# Altium footprint library final.PcbLib: 69 footprints (part 1 of 5)
Each footprint in its own frame and in the unit in brackets; x right, y up, seen from the top. Pads: shape width x height; smd on the part's side, far side on the other; paste and mask are expansions set on the pad; w line width, h text height; cw(c..) or ccw(c..) is an arc to the next point about the centre after c.
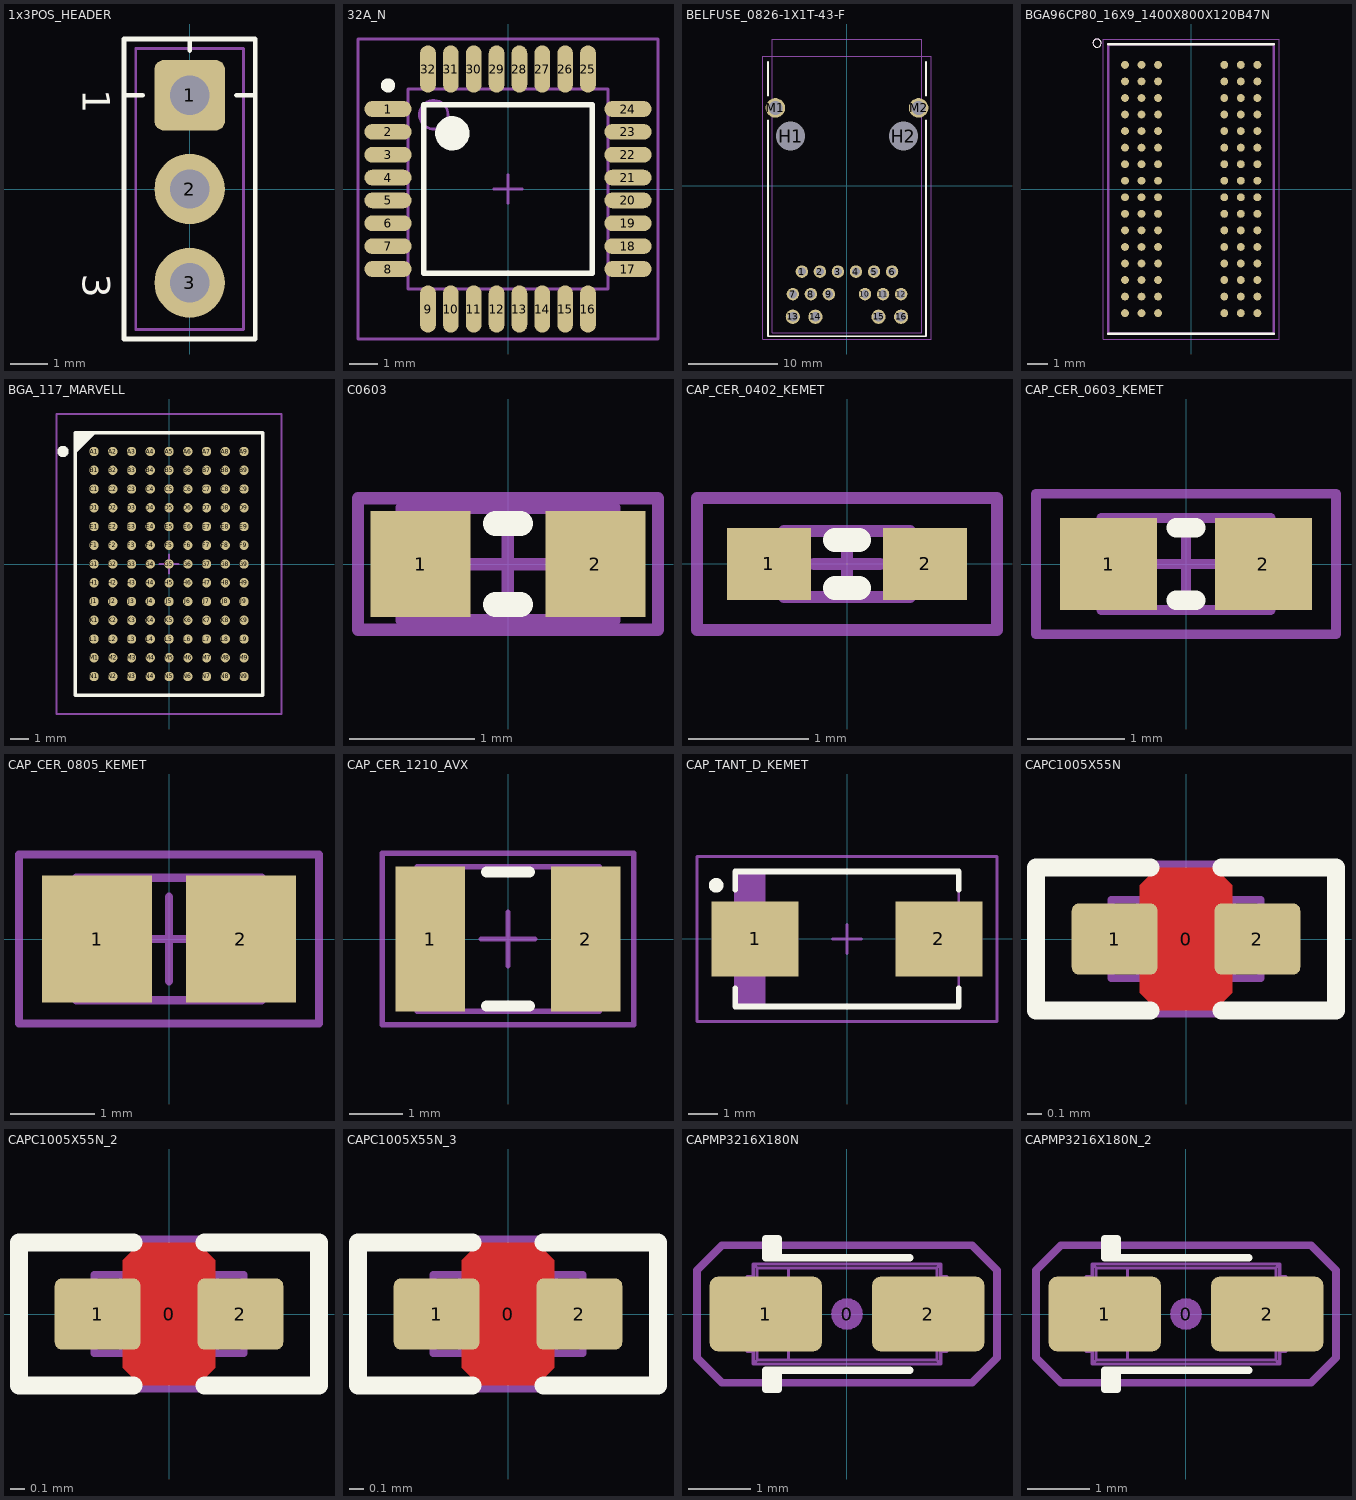
[diagram p0: the footprints below, top view; thin cyan lines are the x and y axes]

## 1x3POS_HEADER [mil] "Connector Header, Single-row 3-position, 0.100\" pitch"
height 235
pads (3):
  rrect25% 75x75 hole 42 mask+1.97: 1(0,100)
  round 75 hole 42 mask+1.97: 2(0,0) 3(0,-100)
Top Overlay:
  lines w5: -70,100 -50,100 ; 0,147.64 0,160 ; 50,100 70,100 ; -70,-160 -70,160 70,160 70,-160 -70,-160
  text "3" at -114.17,-90.55 h29.53
  text "1" at -114.17,106.3 h29.53
Mechanical 13:
  lines w3: -57.47,-150 -57.47,150 57.49,150 57.49,-150 -57.47,-150
3D body: height 335.04, standoff -144.88, extent -57.48,-150 57.48,150

## 32A_N [mm] "Thin QFP, 32-Leads, Body 7x7mm, Pitch 0.8mm, IPC Medium Density"
height 1.2
pads (32):
  oval 1.65x0.55 smd mask+0.05: 1(-4.2,2.8) 2(-4.2,2) 3(-4.2,1.2) 4(-4.2,0.4) 5(-4.2,-0.4) 6(-4.2,-1.2) 7(-4.2,-2) 8(-4.2,-2.8) 17(4.2,-2.8) 18(4.2,-2) 19(4.2,-1.2) 20(4.2,-0.4) 21(4.2,0.4) 22(4.2,1.2) 23(4.2,2) 24(4.2,2.8)
  oval 0.55x1.65 smd mask+0.05: 9(-2.8,-4.2) 10(-2,-4.2) 11(-1.2,-4.2) 12(-0.4,-4.2) 13(0.4,-4.2) 14(1.2,-4.2) 15(2,-4.2) 16(2.8,-4.2) 25(2.8,4.2) 26(2,4.2) 27(1.2,4.2) 28(0.4,4.2) 29(-0.4,4.2) 30(-1.2,4.2) 31(-2,4.2) 32(-2.8,4.2)
Top Overlay:
  circle w0.25: c-4.2,3.625 r0.125
  circle w0.6: c-1.95,1.95 r0.3
  lines w0.2: -2.95,-2.95 -2.95,2.95 2.95,2.95 2.95,-2.95 -2.95,-2.95
Mechanical 14:
  circle w0.1: c-2.6,2.6 r0.5
  lines w0.1: -3.5,-3.5 -3.5,3.5 3.5,3.5 3.5,-3.5 -3.5,-3.5
Mechanical 15:
  lines w0.1: -0.5,0 0.5,0 ; 0,-0.5 0,0.5 ; -5.25,-5.25 -5.25,5.25 5.25,5.25 5.25,-5.25 -5.25,-5.25
3D body: height 1.2, standoff 0, extent -3.5,-3.5 3.5,3.5

## BELFUSE_0826-1X1T-43-F [mm]
pads (20):
  round 1.4 hole 0.914: 1(-5.08,-9.66) 2(-3.05,-9.66) 3(-1.02,-9.66) 4(1.01,-9.66) 5(3.04,-9.66) 6(5.07,-9.66) 7(-6.095,-12.2) 8(-4.065,-12.2) 9(-2.035,-12.2) 10(2.025,-12.2) 11(4.055,-12.2) 12(6.085,-12.2)
  round 1.6 hole 1.118: 13(-6.095,-14.74) 14(-3.555,-14.74) 15(3.545,-14.74) 16(6.085,-14.74)
  round 3.15 hole 3.251 unplated paste+0 mask+0.15: H1(-6.35,5.58) H2(6.35,5.58)
  round 2.2 hole 1.575: M1(-8.065,8.76) M2(8.065,8.76)
Top Overlay:
  lines w0.2: -8.9,7.36 -8.9,-16.94 8.9,-16.94 8.9,7.36 ; -8.9,10.16 -8.9,13.96 ; 8.9,10.16 8.9,13.96
Mechanical 13:
  lines w0.1: -8.4,-16.51 8.4,-16.51 8.4,16.51 -8.4,16.51 -8.4,-16.51
Mechanical 15:
  lines w0.1: -9.5,-17.24 9.5,-17.24 9.5,14.56 -9.5,14.56 -9.5,-17.24
3D body: height 14.5, standoff -3.68, extent -9.308,-16.5 9.271,16.52

## BGA96CP80_16X9_1400X800X120B47N [mm]
pads (96):
  round 0.38 smd: A1(-3.2,6) A2(-2.4,6) A3(-1.6,6) A7(1.6,6) A8(2.4,6) A9(3.2,6) B1(-3.2,5.2) B2(-2.4,5.2) B3(-1.6,5.2) B7(1.6,5.2) B8(2.4,5.2) B9(3.2,5.2) C1(-3.2,4.4) C2(-2.4,4.4) C3(-1.6,4.4) C7(1.6,4.4) C8(2.4,4.4) C9(3.2,4.4) D1(-3.2,3.6) D2(-2.4,3.6) D3(-1.6,3.6) D7(1.6,3.6) D8(2.4,3.6) D9(3.2,3.6) E1(-3.2,2.8) E2(-2.4,2.8) E3(-1.6,2.8) E7(1.6,2.8) E8(2.4,2.8) E9(3.2,2.8) F1(-3.2,2) F2(-2.4,2) F3(-1.6,2) F7(1.6,2) F8(2.4,2) F9(3.2,2) G1(-3.2,1.2) G2(-2.4,1.2) G3(-1.6,1.2) G7(1.6,1.2) G8(2.4,1.2) G9(3.2,1.2) H1(-3.2,0.4) H2(-2.4,0.4) H3(-1.6,0.4) H7(1.6,0.4) H8(2.4,0.4) H9(3.2,0.4) J1(-3.2,-0.4) J2(-2.4,-0.4) J3(-1.6,-0.4) J7(1.6,-0.4) J8(2.4,-0.4) J9(3.2,-0.4) K1(-3.2,-1.2) K2(-2.4,-1.2) K3(-1.6,-1.2) K7(1.6,-1.2) K8(2.4,-1.2) K9(3.2,-1.2) L1(-3.2,-2) L2(-2.4,-2) L3(-1.6,-2) L7(1.6,-2) L8(2.4,-2) L9(3.2,-2) M1(-3.2,-2.8) M2(-2.4,-2.8) M3(-1.6,-2.8) M7(1.6,-2.8) M8(2.4,-2.8) M9(3.2,-2.8) N1(-3.2,-3.6) N2(-2.4,-3.6) N3(-1.6,-3.6) N7(1.6,-3.6) N8(2.4,-3.6) N9(3.2,-3.6) P1(-3.2,-4.4) P2(-2.4,-4.4) P3(-1.6,-4.4) P7(1.6,-4.4) P8(2.4,-4.4) P9(3.2,-4.4) R1(-3.2,-5.2) R2(-2.4,-5.2) R3(-1.6,-5.2) R7(1.6,-5.2) R8(2.4,-5.2) R9(3.2,-5.2) T1(-3.2,-6) T2(-2.4,-6) T3(-1.6,-6) T7(1.6,-6) T8(2.4,-6) T9(3.2,-6)
Top Overlay:
  circle w0: c-4.55,7.05 r0.2
  lines w0.127: -4,-7 4,-7 ; -4,7 4,7
Mechanical 4:
  circle w0: c-4.55,7.05 r0.2
  circle w0: c-4.55,7.05 r0.2
  lines w0.127: -4,-7 -4,7 ; -4,-7 4,-7 ; -4,-7 -4,7 ; -4,-7 4,-7 ; -4,7 4,7 ; -4,7 4,7 ; 4,-7 4,7 ; 4,-7 4,7
Mechanical 16:
  lines w0.05: -4.25,-7.25 -4.25,7.25 4.25,7.25 4.25,-7.25 -4.25,-7.25

## BGA_117_MARVELL [mm]
height 1.54
pads (117):
  round 0.5 smd: A1(-4,6) A2(-3,6) A3(-2,6) A4(-1,6) A5(0,6) A6(1,6) A7(2,6) A8(3,6) A9(4,6) B1(-4,5) B2(-3,5) B3(-2,5) B4(-1,5) B5(0,5) B6(1,5) B7(2,5) B8(3,5) B9(4,5) C1(-4,4) C2(-3,4) C3(-2,4) C4(-1,4) C5(0,4) C6(1,4) C7(2,4) C8(3,4) C9(4,4) D1(-4,3) D2(-3,3) D3(-2,3) D4(-1,3) D5(0,3) D6(1,3) D7(2,3) D8(3,3) D9(4,3) E1(-4,2) E2(-3,2) E3(-2,2) E4(-1,2) E5(0,2) E6(1,2) E7(2,2) E8(3,2) E9(4,2) F1(-4,1) F2(-3,1) F3(-2,1) F4(-1,1) F5(0,1) F6(1,1) F7(2,1) F8(3,1) F9(4,1) G1(-4,0) G2(-3,0) G3(-2,0) G4(-1,0) G5(0,0) G6(1,0) G7(2,0) G8(3,0) G9(4,0) H1(-4,-1) H2(-3,-1) H3(-2,-1) H4(-1,-1) H5(0,-1) H6(1,-1) H7(2,-1) H8(3,-1) H9(4,-1) J1(-4,-2) J2(-3,-2) J3(-2,-2) J4(-1,-2) J5(0,-2) J6(1,-2) J7(2,-2) J8(3,-2) J9(4,-2) K1(-4,-3) K2(-3,-3) K3(-2,-3) K4(-1,-3) K5(0,-3) K6(1,-3) K7(2,-3) K8(3,-3) K9(4,-3) L1(-4,-4) L2(-3,-4) L3(-2,-4) L4(-1,-4) L5(0,-4) L6(1,-4) L7(2,-4) L8(3,-4) L9(4,-4) M1(-4,-5) M2(-3,-5) M3(-2,-5) M4(-1,-5) M5(0,-5) M6(1,-5) M7(2,-5) M8(3,-5) M9(4,-5) N1(-4,-6) N2(-3,-6) N3(-2,-6) N4(-1,-6) N5(0,-6) N6(1,-6) N7(2,-6) N8(3,-6) N9(4,-6)
Top Overlay:
  circle w0.3: c-5.65,6 r0.15
  region: -4,7 -5,6 -5,7
  lines w0.2: -5,6 -4,7 ; -5,-7 -5,7 5,7 5,-7 -5,-7
Mechanical 13:
  lines w0.1: -5,-7 -5,7 5,7 5,-7 -5,-7
Mechanical 15:
  lines w0.1: -0.5,0 0.5,0 ; 0,-0.5 0,0.5 ; -6,-8 -6,8 6,8 6,-8 -6,-8
3D body: height 1.34, standoff -0.05, extent -5,-7 5,7

## C0603 [mm] "0603 Generic"
height 0.45
pads (2):
  rect 0.8x0.85 smd mask+0.05: 1(-0.7,0) 2(0.7,0)
Top Overlay:
  lines w0.2: -0.1,-0.325 0.1,-0.325 ; -0.1,0.325 0.1,0.325
Mechanical 13:
  lines w0.1: -0.85,-0.45 -0.85,0.45 0.85,0.45 0.85,-0.45 -0.85,-0.45
Mechanical 15:
  lines w0.1: -0.45,0 0.45,0 ; 0,-0.45 0,0.45 ; -1.2,-0.525 -1.2,0.525 1.2,0.525 1.2,-0.525 -1.2,-0.525
3D body: height 0.46, standoff -0.01, extent -0.8,-0.42 0.82,0.4

## CAP_CER_0402_KEMET [mm] "Chip Capacitor, 2-Leads, Body 1.0x0.5mm, IPC Medium Density"
height 0.6
pads (2):
  rect 0.7x0.6 smd: 1(-0.65,0) 2(0.65,0)
Top Overlay:
  lines w0.2: -0.1,-0.2 0.1,-0.2 ; -0.1,0.2 0.1,0.2
Mechanical 13:
  lines w0.1: -0.525,-0.275 0.525,-0.275 0.525,0.275 -0.525,0.275 -0.525,-0.275
Mechanical 15:
  lines w0.1: -0.275,0 0.275,0 ; 0,-0.275 0,0.275 ; -1.25,-0.55 1.25,-0.55 1.25,0.55 -1.25,0.55 -1.25,-0.55
3D body: height 0.5, standoff 0, extent -0.5,-0.25 0.5,0.25

## CAP_CER_0603_KEMET [mm]
height 0.6
pads (2):
  rect 1x0.95 smd: 1(-0.8,0) 2(0.8,0)
Top Overlay:
  lines w0.2: -0.1,-0.375 0.1,-0.375 ; -0.1,0.375 0.1,0.375
Mechanical 13:
  lines w0.1: -0.875,-0.475 0.875,-0.475 0.875,0.475 -0.875,0.475 -0.875,-0.475
Mechanical 15:
  lines w0.1: -0.475,0 0.475,0 ; 0,-0.475 0,0.475 ; -1.55,-0.725 1.55,-0.725 1.55,0.725 -1.55,0.725 -1.55,-0.725
3D body: height 0.3, standoff 0, extent -0.805,-0.395 0.795,0.405

## CAP_CER_0805_KEMET [mm]
height 0.6
pads (2):
  rect 1.3x1.5 smd: 1(-0.85,0) 2(0.85,0)
Mechanical 13:
  lines w0.1: -1.1,-0.725 1.1,-0.725 1.1,0.725 -1.1,0.725 -1.1,-0.725
Mechanical 15:
  lines w0.1: -0.5,0 0.5,0 ; 0,-0.5 0,0.5 ; -1.775,-1 1.775,-1 1.775,1 -1.775,1 -1.775,-1
3D body: height 0.3, standoff 0, extent -1,-0.625 1,0.625

## CAP_CER_1210_AVX [mm]
height 0.6
pads (2):
  rect 1.3x2.7 smd: 1(-1.45,0) 2(1.45,0)
Top Overlay:
  lines w0.2: -0.4,-1.25 0.4,-1.25 ; -0.4,1.25 0.4,1.25
Mechanical 13:
  lines w0.1: -1.7,-1.35 -1.7,1.35 1.7,1.35 1.7,-1.35 -1.7,-1.35
Mechanical 15:
  lines w0.1: -0.5,0 0.5,0 ; 0,-0.5 0,0.5 ; -2.35,-1.6 -2.35,1.6 2.35,1.6 2.35,-1.6 -2.35,-1.6
3D body: height 2.75, standoff 0, extent -1.6,-1.243 1.6,1.257

## CAP_TANT_D_KEMET [mm]
height 3.1
pads (2):
  rect 2.95x2.55 smd: 1(-3.125,0) 2(3.125,0)
Top Overlay:
  circle w0.25: c-4.45,1.825 r0.125
  lines w0.2: -3.8,-1.675 -3.8,-2.3 3.8,-2.3 3.8,-1.675 ; -3.8,1.675 -3.8,2.3 3.8,2.3 3.8,1.675
Mechanical 13:
  rectangle: -3.8,-2.3 -2.778,2.3
  lines w0.1: -3.8,-2.3 3.8,-2.3 3.8,2.3 -3.8,2.3 -3.8,-2.3
Mechanical 15:
  lines w0.1: -0.5,0 0.5,0 ; 0,-0.5 0,0.5 ; -5.1,-2.8 5.1,-2.8 5.1,2.8 -5.1,2.8 -5.1,-2.8
3D body: height 2.8, standoff 0, extent -3.65,-2.15 3.65,2.15

## CAPC1005X55N [mm] "Chip Capacitor, Body 1.0x0.5mm, EIA 0402, IPC Medium Density"
height 0.55
pads (3):
  round 0.2 on Mech15 mask+0.05: 0(0,0)
  rrect20% 0.6x0.5 smd mask+0.05: 1(-0.5,0) 2(0.5,0)
Top Layer:
  pour cut-out: -0.325,0.375 -0.2,0.5 0.2,0.5 0.325,0.375 0.325,-0.375 0.2,-0.5 -0.2,-0.5 -0.325,-0.375
Top Overlay:
  lines w0.127: -0.25,-0.5 -1.05,-0.5 -1.05,0.5 -0.25,0.5 ; 0.25,-0.5 1.05,-0.5 1.05,0.5 0.25,0.5
Mechanical 13:
  lines w0.05: -0.325,-0.255 0.325,-0.255 ; -0.325,0.255 0.325,0.255 ; -0.525,-0.275 -0.325,-0.275 -0.325,0.275 -0.525,0.275 -0.525,-0.275 ; 0.325,-0.275 0.325,0.275 0.525,0.275 0.525,-0.275 0.325,-0.275
Mechanical 15:
  lines w0.1: -1.05,-0.5 1.05,-0.5 1.05,0.5 -1.05,0.5 -1.05,-0.5
3D body: height 0.55, standoff 0, extent -0.525,-0.275 0.525,0.275

## CAPC1005X55N_2 [mm]
pads (3):
  round 0.2 on Mech15: 0(0,0)
  rrect20% 0.6x0.5 smd: 1(-0.5,0) 2(0.5,0)
Top Layer:
  pour cut-out: -0.325,0.375 -0.2,0.5 0.2,0.5 0.325,0.375 0.325,-0.375 0.2,-0.5 -0.2,-0.5 -0.325,-0.375
Top Overlay:
  lines w0.127: -0.25,-0.5 -1.05,-0.5 -1.05,0.5 -0.25,0.5 ; 0.25,-0.5 1.05,-0.5 1.05,0.5 0.25,0.5
Mechanical 13:
  lines w0.05: -0.325,-0.255 0.325,-0.255 ; -0.325,0.255 0.325,0.255 ; -0.525,-0.275 -0.325,-0.275 -0.325,0.275 -0.525,0.275 -0.525,-0.275 ; 0.325,-0.275 0.325,0.275 0.525,0.275 0.525,-0.275 0.325,-0.275
Mechanical 15:
  lines w0.1: -1.05,-0.5 1.05,-0.5 1.05,0.5 -1.05,0.5 -1.05,-0.5
3D body: height 0.55, standoff 0, extent -0.525,-0.275 0.525,0.275

## CAPC1005X55N_3 [mm]
pads (3):
  round 0.2 on Mech15: 0(0,0)
  rrect20% 0.6x0.5 smd: 1(-0.5,0) 2(0.5,0)
Top Layer:
  pour cut-out: -0.325,0.375 -0.2,0.5 0.2,0.5 0.325,0.375 0.325,-0.375 0.2,-0.5 -0.2,-0.5 -0.325,-0.375
Top Overlay:
  lines w0.127: -0.25,-0.5 -1.05,-0.5 -1.05,0.5 -0.25,0.5 ; 0.25,-0.5 1.05,-0.5 1.05,0.5 0.25,0.5
Mechanical 13:
  lines w0.05: -0.325,-0.255 0.325,-0.255 ; -0.325,0.255 0.325,0.255 ; -0.525,-0.275 -0.525,0.275 -0.325,0.275 -0.325,-0.275 -0.525,-0.275 ; 0.325,-0.275 0.525,-0.275 0.525,0.275 0.325,0.275 0.325,-0.275
Mechanical 15:
  lines w0.1: -1.05,-0.5 -1.05,0.5 1.05,0.5 1.05,-0.5 -1.05,-0.5
3D body: height 0.55, standoff 0, extent -0.525,-0.275 0.525,0.275

## CAPMP3216X180N [mm] "Capacitor, polarized, Molded Body, EIA 535BAAC size A; 3.20mm L X 1.60mm W X 1.80mm H"
height 1.8
pads (3):
  round 0.508 on Mech15: 0(0,0)
  rrect25% 1.8x1.2 smd: 1(-1.3,0) 2(1.3,0)
Top Overlay:
  lines w0.127: -1.2,-1.2 -1.2,-0.9 ; -1.2,0.9 -1.2,1.2 ; -1.1,-0.9 -1.1,-1.2 -1.3,-1.2 -1.3,-0.9 1,-0.9 ; -1.1,0.9 -1.1,1.2 -1.3,1.2 -1.3,0.9 1,0.9
Mechanical 13:
  lines w0.05: -1.6,-0.36 -1.499,-0.36 ; -1.6,0.36 -1.499,0.36 ; -1.499,-0.6 -1.6,-0.6 -1.6,0.6 -1.499,0.6 ; -0.937,-0.737 -0.937,0.737 ; 1.499,-0.6 1.6,-0.6 1.6,0.6 1.499,0.6 ; 1.499,-0.36 1.6,-0.36 ; 1.499,0.36 1.6,0.36 ; -1.5,-0.8 -1.437,-0.737 ; -1.5,-0.8 1.5,-0.8 ; -1.5,-0.8 -1.5,0.8 ; -1.5,0.8 -1.437,0.737 ; -1.5,0.8 1.5,0.8 ; -1.437,-0.737 1.437,-0.737 ; -1.437,-0.737 -1.437,0.737 ; -1.437,0.737 1.437,0.737 ; 1.437,-0.737 1.5,-0.8 ; 1.437,-0.737 1.437,0.737 ; 1.437,0.737 1.5,0.8 ; 1.5,-0.8 1.5,0.8
Mechanical 15:
  lines w0.127: -2.4,-0.7 -2.4,0.7 -2,1.1 2,1.1 2.4,0.7 2.4,-0.7 2,-1.1 -2,-1.1 -2.4,-0.7
3D body: height 1.8, standoff 0, extent -1.6,-0.8 1.6,0.8

## CAPMP3216X180N_2 [mm]
pads (3):
  round 0.508 on Mech15: 0(0,0)
  rrect25% 1.8x1.2 smd: 1(-1.3,0) 2(1.3,0)
Top Overlay:
  lines w0.127: -1.2,-1.2 -1.2,-0.9 ; -1.2,0.9 -1.2,1.2 ; -1.1,-0.9 -1.1,-1.2 -1.3,-1.2 -1.3,-0.9 1,-0.9 ; -1.1,0.9 -1.1,1.2 -1.3,1.2 -1.3,0.9 1,0.9
Mechanical 13:
  lines w0.05: -1.6,-0.36 -1.499,-0.36 ; -1.6,0.36 -1.499,0.36 ; -1.499,-0.6 -1.6,-0.6 -1.6,0.6 -1.499,0.6 ; -0.937,-0.737 -0.937,0.737 ; 1.499,-0.6 1.6,-0.6 1.6,0.6 1.499,0.6 ; 1.499,-0.36 1.6,-0.36 ; 1.499,0.36 1.6,0.36 ; -1.5,-0.8 -1.5,0.8 ; -1.5,-0.8 1.5,-0.8 ; -1.5,-0.8 -1.437,-0.737 ; -1.5,0.8 1.5,0.8 ; -1.5,0.8 -1.437,0.737 ; -1.437,-0.737 -1.437,0.737 ; -1.437,-0.737 1.437,-0.737 ; -1.437,0.737 1.437,0.737 ; 1.437,-0.737 1.437,0.737 ; 1.437,-0.737 1.5,-0.8 ; 1.437,0.737 1.5,0.8 ; 1.5,-0.8 1.5,0.8
Mechanical 15:
  lines w0.127: -2.4,-0.7 -2,-1.1 2,-1.1 2.4,-0.7 2.4,0.7 2,1.1 -2,1.1 -2.4,0.7 -2.4,-0.7
3D body: height 1.8, standoff 0, extent -1.6,-0.8 1.6,0.8